# EAGLE library part ESP-JTAG (library SuperHouse-ESPFlash)
ESP-JTAG JTAG header for ESP32. Options for both 2.54mm (0.1") and 1.27mm (0.05") pitch.
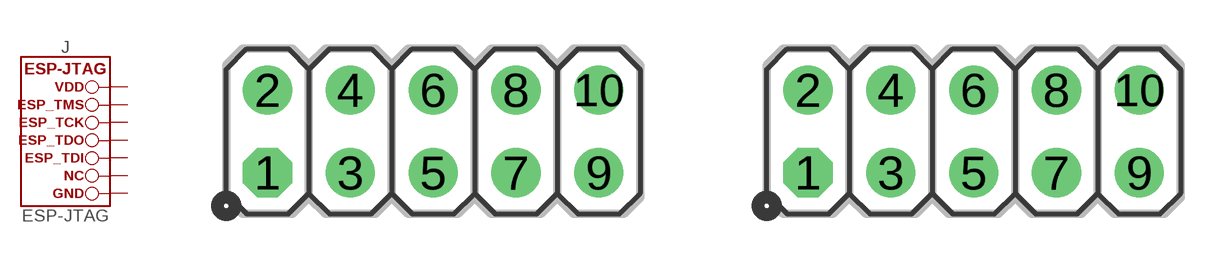
[diagram p0: symbol with the pads of 2X5-2.54-PLAIN; footprints 2X5-2.54-PLAIN, 2X5-2.54-PINS]

Designator prefix J

## ESP-JTAG-2.54-PLAIN  [2X5-2.54-PLAIN]
1  VDD  pas
2  ESP_TMS  pas
3  GND  pas
4  ESP_TCK  pas
5  GND  pas
6  ESP_TDO  pas
7  GND  pas
8  ESP_TDI  pas
9  GND  pas
10  NC  pas

## ESP-JTAG-2.54-PINS  [2X5-2.54-PINS]
Pads as for 2X5-2.54-PLAIN

## ESP-JTAG-2.54-SHROUDED  [2X5-2.54-SHROUDED]
Pads as for 2X5-2.54-PLAIN

## ESP-JTAG-1.27-PLAIN  [2X5-1.27-PLAIN]
Pads as for 2X5-2.54-PLAIN

## ESP-JTAG-1.27-SHROUDED  [2X5-1.27-SHROUDED]
Pads as for 2X5-2.54-PLAIN

## ESP-JTAG-1.27-PINS  [2X5-1.27-PINS]
Pads as for 2X5-2.54-PLAIN

## Footprint 2X5-2.54-PLAIN (pad centres in mm)
ESP-JTAG Header: 2x5 @ 2.54mm format, 1mm holes with no header
drill 1 octagon: 1 -5.08,-1.27
drill 1: 2 -5.08,1.27; 3 -2.54,-1.27; 4 -2.54,1.27; 5 0,-1.27; 6 0,1.27; 7 2.54,-1.27; 8 2.54,1.27; 9 5.08,-1.27; 10 5.08,1.27

## Footprint 2X5-2.54-PINS (pad centres in mm)
ESP-JTAG Header: 2x5 @ 2.54mm format, 1mm holes with pin header
drill 1 octagon: 1 -5.08,-1.27
drill 1: 2 -5.08,1.27; 3 -2.54,-1.27; 4 -2.54,1.27; 5 0,-1.27; 6 0,1.27; 7 2.54,-1.27; 8 2.54,1.27; 9 5.08,-1.27; 10 5.08,1.27

## Footprint 2X5-2.54-SHROUDED (pad centres in mm)
ESP-JTAG Header: 2x5 @ 2.54mm format, 1mm holes with shrouded header
drill 1 octagon: 1 -5.08,-1.27
drill 1: 2 -5.08,1.27; 3 -2.54,-1.27; 4 -2.54,1.27; 5 0,-1.27; 6 0,1.27; 7 2.54,-1.27; 8 2.54,1.27; 9 5.08,-1.27; 10 5.08,1.27

## Footprint 2X5-1.27-PLAIN (pad centres in mm)
ESP-JTAG Header: 2x5 @ 1.27mm format, 0.7mm holes with no header
drill 0.7 pad 1.016 octagon: 1 -2.54,-0.635
drill 0.7 pad 1.016: 2 -2.54,0.635; 3 -1.27,-0.635; 4 -1.27,0.635; 5 0,-0.635; 6 0,0.635; 7 1.27,-0.635; 8 1.27,0.635; 9 2.54,-0.635; 10 2.54,0.635

## Footprint 2X5-1.27-SHROUDED (pad centres in mm)
ESP-JTAG Header: 2x5 @ 1.27mm format, 0.7mm holes with shrouded header
drill 0.7 pad 1.016 octagon: 1 -2.54,-0.635
drill 0.7 pad 1.016: 2 -2.54,0.635; 3 -1.27,-0.635; 4 -1.27,0.635; 5 0,-0.635; 6 0,0.635; 7 1.27,-0.635; 8 1.27,0.635; 9 2.54,-0.635; 10 2.54,0.635

## Footprint 2X5-1.27-PINS (pad centres in mm)
ESP-JTAG Header: 2x5 @ 1.27mm format, 0.7mm holes with pin header
drill 0.7 pad 1.016 octagon: 1 -2.54,-0.635
drill 0.7 pad 1.016: 2 -2.54,0.635; 3 -1.27,-0.635; 4 -1.27,0.635; 5 0,-0.635; 6 0,0.635; 7 1.27,-0.635; 8 1.27,0.635; 9 2.54,-0.635; 10 2.54,0.635